# Altium schematic symbol library UAARG Autopilot.SchLib: 65 symbols
Pins are listed as number, name and electrical type; pins without a type are passive.

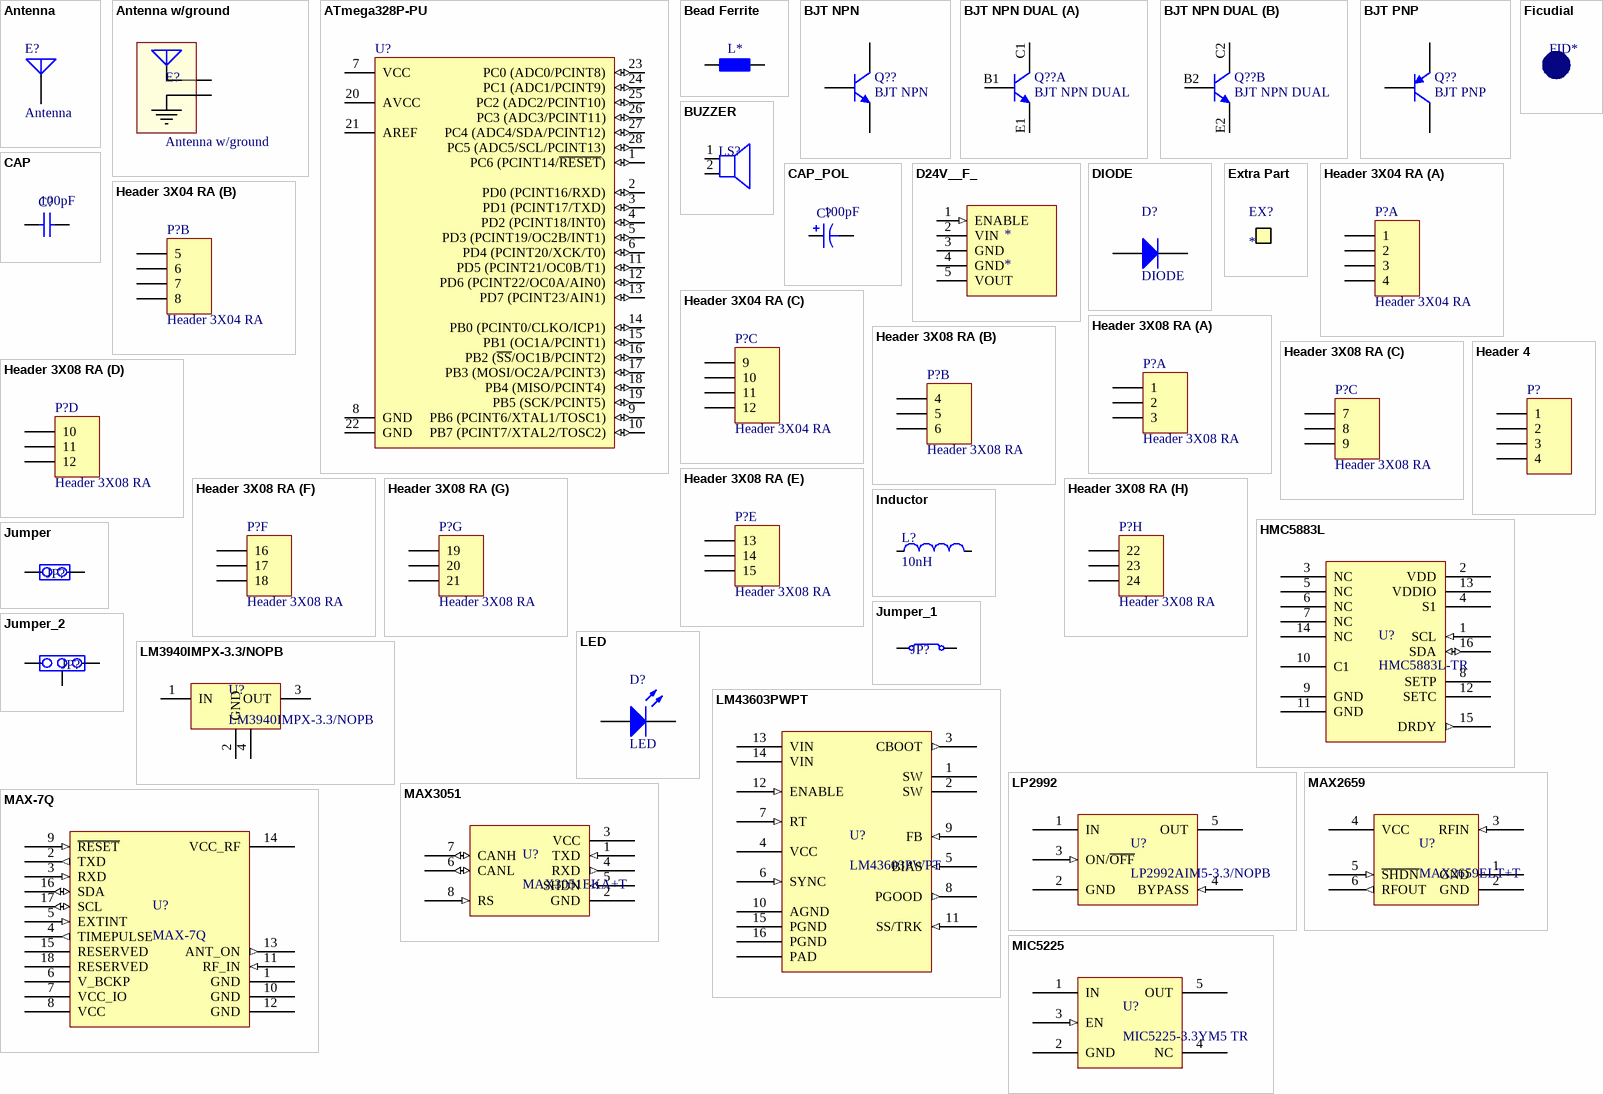
[diagram p0: symbols Antenna to MIC5225]

## Antenna
designator E?
Generic Antenna
pins: 1 A

## Antenna w/ground
designator E?
Generic Antenna with ground point
pins: 1 A, 2 GND

## ATmega328P-PU
designator U?
8-bit AVR Microcontroller, 32KB Flash, 1KB EEPROM, 2KB SRAM, 28-pin PDIP, Industrial Grade (-40°C to 85°C); Manufacturer: Atmel; Manufacturer Part Number: ATmega328P-PU; DatasheetVersion: revD, May-2011; PackageVersion: revB, Sep-2001; PackageReference: 28P3; PackageDescription: 28-lead (0.300"/7.62mm Wide) Plastic Dual Inline Package (PDIP); ComponentLink1Description: Manufacturer URL; ComponentLink1URL: http://www.atmel.com/; ComponentLink2Description: ATmega48A/48PA/88A/88PA/168A/168PA/328/328P Datasheet; ComponentLink2URL: http://www.atmel.com/dyn/resources/prod_documents/8271.pdf; ComponentLink3Description: ATmega48A/48PA/88A/88PA/168A/168PA/328/328P Summary; ComponentLink3URL: http://www.atmel.com/dyn/resources/prod_documents/8271S.pdf; Supplier 1: Mouser; Supplier Part Number 1: 556-ATMEGA328P-PU
footprint DIP28-P3 (28-Pin Plastic Dual In-Line Package (PDIP))
footprint DIP28-P3 FOR SOCKET (28-Pin Plastic Dual In-Line Package (PDIP), elevated for socket fitting)
pins: 1 PC6 (PCINT14/~{RESET}) (io), 2 PD0 (PCINT16/RXD) (io), 3 PD1 (PCINT17/TXD) (io), 4 PD2 (PCINT18/INT0) (io), 5 PD3 (PCINT19/OC2B/INT1) (io), 6 PD4 (PCINT20/XCK/T0) (io), 7 VCC (power), 8 GND (power), 9 PB6 (PCINT6/XTAL1/TOSC1) (io), 10 PB7 (PCINT7/XTAL2/TOSC2) (io), 11 PD5 (PCINT21/OC0B/T1) (io), 12 PD6 (PCINT22/OC0A/AIN0) (io), 13 PD7 (PCINT23/AIN1) (io), 14 PB0 (PCINT0/CLKO/ICP1) (io), 15 PB1 (OC1A/PCINT1) (io), 16 PB2 (~{SS}/OC1B/PCINT2) (io), 17 PB3 (MOSI/OC2A/PCINT3) (io), 18 PB4 (MISO/PCINT4) (io), 19 PB5 (SCK/PCINT5) (io), 20 AVCC (power), 21 AREF (power), 22 GND (power), 23 PC0 (ADC0/PCINT8) (io), 24 PC1 (ADC1/PCINT9) (io), 25 PC2 (ADC2/PCINT10) (io), 26 PC3 (ADC3/PCINT11) (io), 27 PC4 (ADC4/SDA/PCINT12) (io), 28 PC5 (ADC5/SCL/PCINT13) (io)

## Bead Ferrite
designator L*, comment MH2029-300Y  (value not drawn)
BEAD FERRITE 30 OHM 3A; Manufacturer: Bourns Inc.; Manufacturer Part Number: MH2029-300Y; Supplier 1: Digi-Key; Supplier Part Number 1: MH2029-300YCT-ND
footprint GEN_0805[2012M] (Chip SMD Generic Component, Body 2.0x1.2mm, IPC Low Density)
pins: 1, 2

## BJT NPN
designator Q??
NPN General Purpose Amplifier
simulation model 2N3904 (NPN)
signal-integrity model 2N3904
pins: 1 E, 2 B, 3 C

## BJT NPN DUAL
designator Q??
NPN General Purpose Amplifier
simulation model 2N3904 (NPN)
signal-integrity model 2N3904
part A pins: B1, C1, E1
part B pins: B2, C2, E2

## BJT PNP
designator Q??
PNP General Purpose Amplifier
simulation model 2N3906 (PNP)
signal-integrity model 2N3906
pins: 1 E, 2 B, 3 C

## BUZZER
designator LS?  (value not drawn)
Manufacturer: *; Manufacturer Part Number: *; Supplier 1: *; Suplier Part Number 1: *
pins: 1 POS, 2 NEG

## CAP
designator C?  value 100pF  (hidden comment: CAP)
Capacitor; Manufacturer: *; Manufacturer Part Number: *; Supplier 1: *; Supplier Part Number 1: *
footprint RAD-0.3 (Radial Cap, Thru-Hole; 2 Leads; 0.3 in Pin Spacing)
simulation model CAP (Capacitor)
signal-integrity model Cap
footprint CAP_0402[1005M] (Chip SMD Capacitor, Body 1.0x0.5mm, IPC Low Density)
footprint CAP_0603[1608M] (Chip SMD Capacitor, Body 1.6x0.8mm, IPC Low Density)
footprint CAP_0805[2012M] (Chip SMD Capacitor, Body 2.0x1.2mm, IPC Low Density)
footprint CAP_1206[3216M] (Chip SMD Capacitor, Body 3.2x1.6mm, IPC Low Density)
footprint CAP_1210[3225M] (Chip SMD Capacitor, Body 3.2x2.5mm, IPC Low Density)
pins: 1, 2

## CAP_POL
designator C?  value 100pF  (hidden comment: CAP_POL)
Polarized Capacitor; Manufacturer: *; Manufacturer Part Number: *; Supplier 1: *; Supplier Part Number 1: *
footprint POLAR0.8 (Polarized Capacitor; 2 Leads)
simulation model CAP (Capacitor)
signal-integrity model Cap Pol
pins: 1, 2
1 alternate drawing of the same symbol

## D24V__F_
designator *
Pololu Buck Converter D24V__F_ series
footprint D24V__F_ (Pololu's Buck Converter Module)
pins: 1 ENABLE (in), 2 VIN (power), 3 GND (power), 4 GND (power), 5 VOUT (power)

## DIODE
designator D?
Typical Diode; Manufacturer: *; Manufacturer Part Number: *; Supplier 1: *; Supplier Part Number 1: *
footprint SOD-123 (SOD-123 SMD)
pins: 1 A, 2 K

## Extra Part
designator EX?  (mechanical)
Extra Part (Mechanical); Manufacturer: *; Manufacturer Part Number: *; Supplier Part Number 1: *; Supplier: *

## Ficudial
designator FID*  (no BOM)
Fiducial

## Header 3X04 RA
designator P?
Header, 12-Pin
signal-integrity model Connector
footprint HDR_3x04_RA (Connector; Header; 12 Position, 3 rows, 4 pins per row, right angle)
part A pins: 1, 2, 3, 4
part B pins: 5, 6, 7, 8
part C pins: 9, 10, 11, 12

## Header 3X08 RA
designator P?
Header, 24-Pin
signal-integrity model Connector
footprint HDR_3x08_RA (Connector; Header; 24 Position, 3 rows, 8 pins per row, right angle)
part A pins: 1, 2, 3
part B pins: 4, 5, 6
part C pins: 7, 8, 9
part D pins: 10, 11, 12
part E pins: 13, 14, 15
part F pins: 16, 17, 18
part G pins: 19, 20, 21
part H pins: 22, 23, 24

## Header 4
designator P?
Header, 4-Pin; LatestRevisionDate: 17-Jul-2002; LatestRevisionNote: Re-released for DXP Platform.; Publisher: Altium Limited
footprint HDR1X4 (Connector; Header; 4 Position)
signal-integrity model Connector
pins: 1, 2, 3, 4

## HMC5883L
designator U?, comment HMC5883L-TR
HMC5883L 3-axis Magnetometer; Manufacturer: Honeywell Microelectronics & Precision Sensors; Manufacturer Part Number: HMC5883L-TR; Supplier 1: Digi-Key; Supplier Part Number 1: 342-1082-1-ND
footprint QFN16 (QFN, 16-Leads, Body 3x3mm, Pitch 0.5mm)
pins: 1 SCL (in), 2 VDD (power), 3 NC, 4 S1, 5 NC, 6 NC, 7 NC, 8 SETP, 9 GND (power), 10 C1, 11 GND (power), 12 SETC, 13 VDDIO (power), 14 NC, 15 DRDY (out), 16 SDA (io)

## Inductor
designator L?, comment 10nH
Chip Inductor; Value: 10nH
pins: 1, 2

## Jumper
designator JP?  (value not drawn)
Manufacturer: *; Manufacturer Part Number: *; Supplier 1: *; Supplier Part Number 1: *
pins: 1, 2

## Jumper_1
designator JP?, comment Jumper  (value not drawn)
Manufacturer: *; Manufacturer Part Number: *; Supplier 1: *; Supplier Part Number 1: *
pins: 1, 2

## Jumper_2
designator JP?, comment Jumper  (value not drawn)
Manufacturer: *; Manufacturer Part Number: *; Supplier 1: *; Supplier Part Number 1: *
footprint JUMPER_3POS (Multi Jumper 3 positions)
pins: 1, 2, 3

## LED
designator D?
Typical LED
footprint LED-0 (LED; 2 Leads)
simulation model LED0 (Diode)
pins: 1 A, 2 K

## LM3940IMPX-3.3/NOPB
designator U?
IC REG LDO 3.3V 1A SOT223; Manufacturer: Texas Instruments; Manufacturer Part Number: LM3940IMPX-3.3/NOPB; Package: SOT-223; Supplier 1: Digi-Key; Supplier Part Number 1: LM3940IMPX-3.3/NOPBCT-ND
footprint SOT223-3 (SOT223, 3-Leads, Body 6.5x3.5mm, Pitch 2.3mm)
pins: 1 IN (power), 2 GND (power), 3 OUT (power), 4 TAB (power)

## LM43603PWPT
designator U?
Simple Switcher 3.5V to 36V 3A Synchronous Step-Down Voltage Converter; Manufacturer: Texas Instruments; Manufacturer Part Number: LM43603PWPT; Supplier 1: Digi-Key; Supplier Part Number 1: 296-37755-1-ND
footprint HTSSOP-16 (Thin-Shrink Small Outline Package (TSSOP), 16-Leads, Body 4.4x5.0mm, Pitch 0.65mm, IPC Medium Density with exposed pad)
pins: 1 SW (power), 2 SW (power), 3 CBOOT (out), 4 VCC (power), 5 BIAS (in), 6 SYNC (in), 7 RT (in), 8 PGOOD (out), 9 FB (in), 10 AGND (power), 11 SS/TRK (in), 12 ENABLE (in), 13 VIN (power), 14 VIN (power), 15 PGND (power), 16 PGND (power), EP PAD (power)

## LP2992
designator U?, comment LP2992AIM5-3.3/NOPB
LP2992 LDO Voltage Regulator; Manufacturer: Texas Instruments; Voltage - Output: 3.3V; Current - Output: 250mA; Voltage - Dropout (Typical): 0.45V @ 250mA; Voltage - Input: Up to 16V; Supplier 1: Digi-Key; Supplier Part Number 1: LP2992AIM5-3.3/NOPBCT-ND; Manufacturer Part Number: LP2992AIM5-3.3/NOPB; ComponentLink1URL: http://www.ti.com/lit/ds/symlink/lp2992.pdf; ComponentLink1Description: Datasheet
footprint SOT23-5_N (SOT23, 5-Leads, Body 2.9x1.6mm, Pitch 0.95mm, Lead Span 2.8mm, IPC Medium Density)
pins: 1 IN (power), 2 GND (power), 3 ON/~{OFF} (in), 4 BYPASS (in), 5 OUT (power)

## MAX2659
designator U?, comment MAX2659ELT+T
MAX2659 Low Noise Amplifier; Manufacturer: Maxim Integrated; Gain: 20.5dB; Frequency: 1575.42MHz; Current - Supply: 4.1mA; Voltage - Supply: 1.6 V ~ 3.3 V; Supplier 1: Digi-Key; Supplier Part Number 1: MAX2659ELT+TCT-ND; Manufacturer Part Number: MAX2659ELT+T; Package / Case: 6-WFDFN; ComponentLink1URL: http://datasheets.maximintegrated.com/en/ds/MAX2659.pdf; ComponentLink1Description: http://datasheets.maximintegrated.com/en/ds/MAX2659.pdf
footprint uDFN-6 (uDFN 6-Leads, Body 1.5x1.0mm, Pitch 0.5mm)
pins: 1 GND (power), 2 GND (power), 3 RFIN (in), 4 VCC (power), 5 ~{SHDN} (in), 6 RFOUT (out)

## MAX3051
designator U?, comment MAX3051EKA+T
MAX3051 CAN Transceiver; Manufacturer: Maxim Integrated; Manufacturer Part Number: MAX3051EKA+T; Supplier 1: Digi-Key; Supplier Part Number 1: MAX3051EKA+TCT-ND
footprint SOT23-8_N (SOT23, 8-Leads, Body 2.9x1.6mm, Pitch 0.65mm, Lead Span 2.8mm, IPC Medium Density)
pins: 1 TXD (in), 2 GND (power), 3 VCC (power), 4 RXD (out), 5 SHDN (in), 6 CANL (io), 7 CANH (io), 8 RS (in)

## MAX-7Q
designator U?
u-blox MAX-7Q GNSS Module; Manufacturer: u-blox; Supplier 1: u-blox; Supplier Part Number 1: MAX-7Q; Manufacturer Part Number: MAX-7Q
footprint MAX6/7_GPS (u-blox MAX6/7 GNSS module)
pins: 1 GND (power), 2 TXD (out), 3 RXD (in), 4 TIMEPULSE (out), 5 EXTINT (in), 6 V_BCKP (power), 7 VCC_IO (power), 8 VCC (power), 9 ~{RESET} (in), 10 GND (power), 11 RF_IN (in), 12 GND (power), 13 ANT_ON (out), 14 VCC_RF (power), 15 RESERVED, 16 SDA (io), 17 SCL (io), 18 RESERVED

## MIC5225
designator U?, comment MIC5225-3.3YM5 TR
Ultra-Low Quiescent Current 150mA uCap Low Dropout Regulator; Manufacturer: Micrel Inc; Manufacturer Part Number: MIC5225-3.3YM5 TR; Supplier 1: Digi-Key; Supplier Part Number 1: 576-2980-1-ND
footprint SOT23-5_N (SOT23, 5-Leads, Body 2.9x1.6mm, Pitch 0.95mm, Lead Span 2.8mm, IPC Medium Density)
pins: 1 IN (power), 2 GND (power), 3 EN (in), 4 NC, 5 OUT (power)

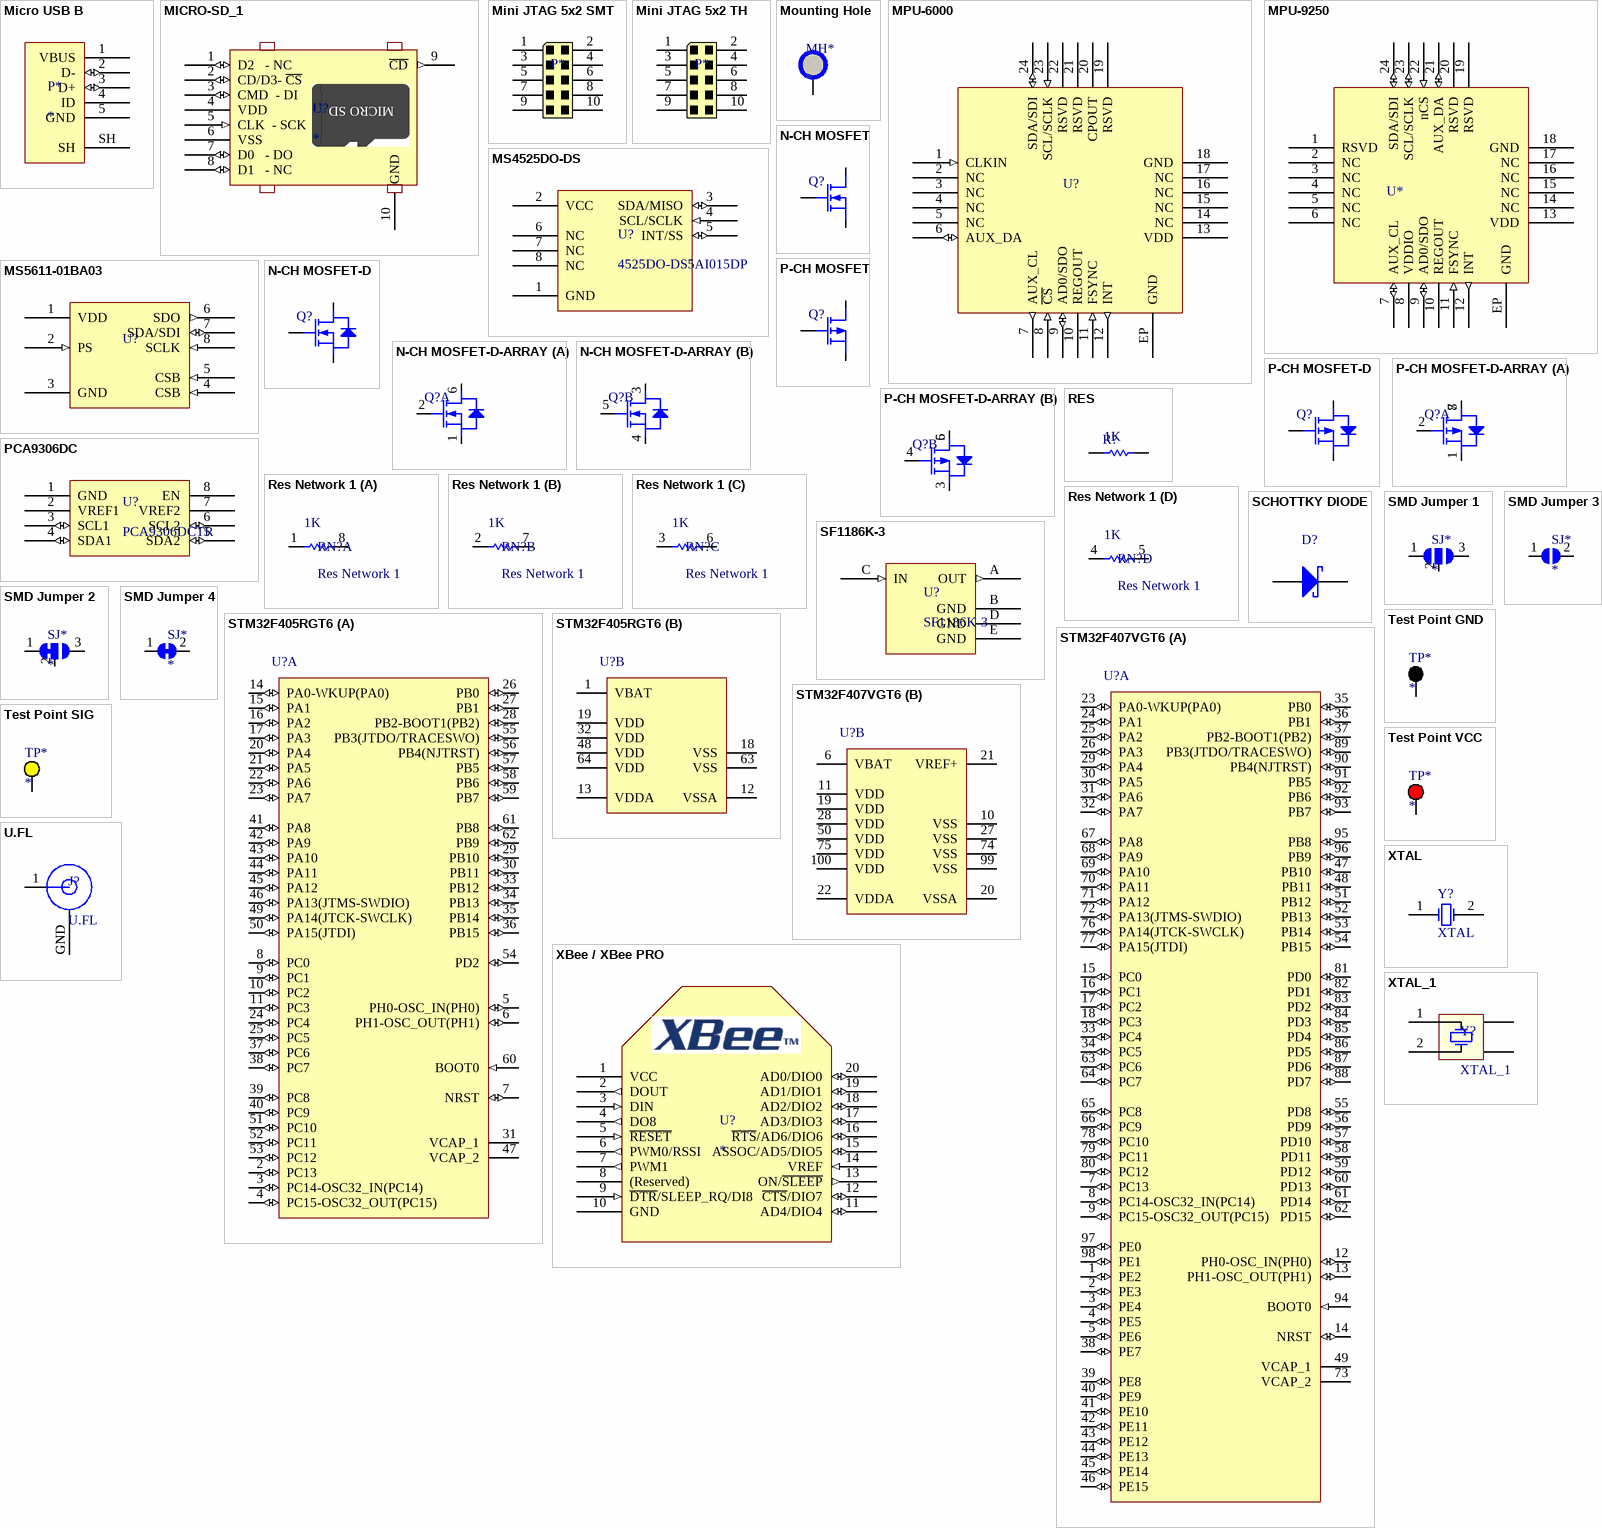
[diagram p1: symbols Micro USB B to XTAL_1]

## Micro USB B
designator P*
Micro USB Connector Type B; Manufacturer: Molex Inc; Manufacturer Part Number: 1050170001; Supplier 1: Digi-Key; Supplier Part Number 1: WM1399CT-ND
footprint Micro USB B (Micro USB B SMD R/A)
pins: 1 VBUS (power), 2 D- (io), 3 D+ (io), 4 ID, 5 GND (power), SH

## MICRO-SD_1
designator U?
GCT MEM2051-00-195-00-A; Manufacturer: Global Connector Technology; Manufacturer Part Number: MEM2051-00-195-00-A; Supplier 1: Newark; Supplier Part Number 1: 05W3557
footprint MICRO-SD_1 (Global Connector Technology MEM2051-00-195-00-A)
pins: 1 D2   - NC (io), 2 CD/D3- ~{CS} (io), 3 CMD  - DI (io), 4 VDD (power), 5 CLK  - SCK (in), 6 VSS (power), 7 D0   - DO (io), 8 D1   - NC (io), 9 ~{CD} (out), 10 GND (power)
text: MICRO SD

## Mini JTAG 5x2 SMT
designator P*  (value not drawn)
Mini JTAG connector header 10 pos 5x2 pitch 1.27mm SMT; Manufacturer: Harwin Inc; Manufacturer Part Number: M50-3600542; Supplier 1: Digi-Key; Supplier Part Number 1: 952-1389-ND
footprint Header 5x2 1.27mm SMD (Header 10pos, 5x2, pitch 1.27mm SMD)
pins: 1, 2, 3, 4, 5, 6, 7, 8, 9, 10

## Mini JTAG 5x2 TH
designator P*  (value not drawn)
Mini JTAG connector header 10 pos 5x2 pitch 1.27mm TH; Manufacturer: Harwin Inc; Manufacturer Part Number: M50-3600542; Supplier 1: Digi-Key; Supplier Part Number 1: 952-1383-ND
footprint Header 5x2 1.27mm TH (Header 10pos, 5x2, pitch 1.27mm TH)
pins: 1, 2, 3, 4, 5, 6, 7, 8, 9, 10

## Mounting Hole
designator MH*  (mechanical)
Mounting Hole
pins: 1

## MPU-6000
designator U?
Invense MPU-6000 6 Axis Motion Sensor; Manufacturer: InvenSense; Supplier 2: InvenSense; Supplier Part Number 2: MPU-6000; Supplier 1: Digi-Key; Supplier Part Number 1: 1428-1005-2-ND; Manufacturer Part Number: MPU-6000
footprint QFN24 (QFN, 24-Leads, Body 3x3mm, Pitch 0.4mm)
pins: 1 CLKIN (in), 2 NC, 3 NC, 4 NC, 5 NC, 6 AUX_DA (io), 7 AUX_CL (out), 8 ~{CS} (in), 9 AD0/SDO (io), 10 REGOUT (power), 11 FSYNC (in), 12 INT (out), 13 VDD (power), 14 NC, 15 NC, 16 NC, 17 NC, 18 GND (power), 19 RSVD, 20 CPOUT (power), 21 RSVD, 22 RSVD, 23 SCL/SCLK (in), 24 SDA/SDI (io), EP GND (power)

## MPU-9250
designator U*  (value not drawn)
Invense MPU-9250 9 Axis Motion Sensor; Manufacturer: InvenSense; Manufacturer Part Number: MPU-9250; Supplier 2: InvenSense; Supplier Part Number 2: MPU-9250; Supplier 1: Digi-Key; Supplier Part Number 1: 1428-1019-1-ND
footprint QFN24 (QFN, 24-Leads, Body 3x3mm, Pitch 0.4mm)
pins: 1 RSVD, 2 NC, 3 NC, 4 NC, 5 NC, 6 NC, 7 AUX_CL (io), 8 VDDIO (power), 9 AD0/SDO (io), 10 REGOUT (power), 11 FSYNC (in), 12 INT (out), 13 VDD (power), 14 NC, 15 NC, 16 NC, 17 NC, 18 GND (power), 19 RSVD, 20 RSVD, 21 AUX_DA (io), 22 nCS (in), 23 SCL/SCLK (io), 24 SDA/SDI (io), EP GND (power)

## MS4525DO-DS
designator U?, comment 4525DO-DS5AI015DP
SENSOR DIFF PRESS 15PSI 8DIP PCB; Manufacturer: TE Connectivity Measurement Specialties; Operating Pressure: 15 PSI (103.42 kPa); Manufacturer Part Number: 4525DO-DS5AI015DP; Supplier 1: Digi-Key; Supplier Part Number 1: 223-1113-ND
pins: 1 GND (power), 2 VCC (power), 3 SDA/MISO (io), 4 SCL/SCLK (in), 5 INT/SS (io), 6 NC, 7 NC, 8 NC

## MS5611-01BA03
designator U?  (value not drawn)
MS5611-01BA03 Barometer, Altimeter; Manufacturer: Measurement Specialties, Inc.; Manufacturer Part Number: MS5611-01BA03; Supplier 1: Component Distributors, Inc.; Supplier Part Number 1: MS5611-01BA03; Supplier 2: Newark; Supplier Part Number 2: 20X0212
footprint MS5611-01BA03 (MS5611-01BA03 Pressure Sensor)
pins: 1 VDD (power), 2 PS (in), 3 GND (power), 4 CSB (in), 5 CSB (in), 6 SDO (out), 7 SDA/SDI (io), 8 SCLK (in)

## N-CH MOSFET
designator Q?  (value not drawn)
N-CH MOSFET
pins: 1 D, 2 G, 3 S

## N-CH MOSFET-D
designator Q?  (value not drawn)
N-CH MOSFET W/ DIODE
pins: 1 D, 2 G, 3 S

## N-CH MOSFET-D-ARRAY
designator Q?  (value not drawn)
N-CH MOSFET W/ DIODE DUAL PACKAGE
part A pins: 1 S1, 2 G1, 6 D1
part B pins: 3 D1, 4 S2, 5 G2

## P-CH MOSFET
designator Q?  (value not drawn)
P-CH MOSFET
pins: 1 D, 2 G, 3 S

## P-CH MOSFET-D
designator Q?  (value not drawn)
P-CH MOSFET W/ DIODE
pins: 1 D, 2 G, 3 S

## P-CH MOSFET-D-ARRAY
designator Q?  (value not drawn)
P-CH MOSFET W/ DIODE DUAL PACKAGE
part A pins: 1 S1, 2 G1, 7 D1, 8 D1
part B pins: 3 S2, 4 G2, 5 D2, 6 D2

## PCA9306DC
designator U?, comment PCA9306DCTR
IC VOLT-LEVEL TRANSLATOR SM8; Manufacturer: Texas Instruments; Manufacturer Part Number: PCA9306DCTR; Supplier 1: Digi-Key; Supplier Part Number 1: 296-18509-1-ND
pins: 1 GND (power), 2 VREF1 (power), 3 SCL1 (io), 4 SDA1 (io), 5 SDA2 (io), 6 SCL2 (io), 7 VREF2 (power), 8 EN (power)

## RES
designator R?  value 1K  (hidden comment: RES)
Resistor; Manufacturer: *; Manufacturer Part Number: *; Supplier 1: *; Supplier Part Number 1: *
footprint AXIAL-0.5 (Axial Device, Thru-Hole; 2 Leads; 0.5 in Pin Spacing)
simulation model RES (Semiconductor Resistor)
signal-integrity model Res Semi
footprint RES_0402[1005M] (Chip SMD Resistor Body 1.0x0.5mm, IPC Low Density)
footprint RES_0603[1608M] (Chip SMD Resistor Body 1.6x0.8mm, IPC Low Density)
footprint RES_0805[2012M] (Chip SMD Resistor Body 2.0x1.2mm, IPC Low Density)
footprint RES_1206[3216M] (Chip SMD Resistor Body 3.2x1.6mm, IPC Low Density)
footprint RES_1210[3225M] (Chip SMD Resistor Body 3.2x2.5mm, IPC Low Density)
footprint RES_2512[6432M] (Chip SMD Capacitor, Body 6.4x3.2mm, IPC Low Density)
pins: 1, 2

## Res Network 1
designator RN?  value 1K
Isolated Resistor Network; Manufacturer: *; Manufacturer Part Number: *; Supplier 1: *; Supplier Part Number 1: *
part A pins: 1, 8
part B pins: 2, 7
part C pins: 3, 6
part D pins: 4, 5

## SCHOTTKY DIODE
designator D?  (value not drawn)
Typical SchottkyDiode; Manufacturer: *; Manufacturer Part Number: *; Supplier 1: *; Supplier Part Number 1: *
footprint SOD-123 (SOD-123 SMD)
pins: 1 A, 2 K

## SF1186K-3
designator U?
GPS SAW Filter; Manufacturer: Murata Electronics North America; Bandwidth: 40MHz; Insertion Loss: 0.9dB; Filter Type: Band Pass; Frequency: 1575.42MHz Center; Supplier 1: Digi-Key; Supplier Part Number 1: 583-1182-1-ND; Package / Case: 5-SMD, No Lead; Applications: GPS; Manufacturer Part Number: SF1186K-3; Size / Dimension: 0.057" L x 0.045" W (1.45mm x 1.15mm); ComponentLink1URL: http://www.rfmchina.com/prouplod/prodt/sf1186k-3.pdf; ComponentLink1Description: http://www.rfmchina.com/prouplod/prodt/sf1186k-3.pdf
footprint 5-SMD (5-Terminal Surface-Mount Case  1.45 X 1.15- mm Nominal Footprint)
pins: A OUT (out), B GND (power), C IN (in), D GND (power), E GND (power)

## SMD Jumper 1
designator SJ*  (no BOM)
SMD Jumper 3 positions. Open
pins: 1, 2, 3

## SMD Jumper 2
designator SJ*  (no BOM)
SMD Jumper 3 positions. Closed
pins: 1, 2, 3

## SMD Jumper 3
designator SJ*  (no BOM)
SMD Jumper 2 positions. Open
pins: 1, 2

## SMD Jumper 4
designator SJ*  (no BOM)
SMD Jumper 2 positions. Closed
pins: 1, 2

## STM32F405RGT6
designator U?
ARM Cortex-M4 32-bit MCU+FPU, 210 DMIPS, 1024 kB Flash, 192 kB Internal RAM, 51 I/Os, 64-pin LQFP, -40 to 85 degC, Tray; Manufacturer: STMicroelectronics; PartNumber: STM32F405RGT6; D/A Converter: 2x12-bit; FLASH Size (Prog) (kB): 1024; I/Os (High Current): 51; Internal RAM Size (kB): 192; Operating Frequency(F) (Processor speed) (MHz): 168; Supply Voltage(Vcc) max (V): 3.6; Supply Voltage(Vcc) min (V): 1.8; DatasheetVersion: Rev. 4; PackageVersion: Rev. 4, 06/2013; PackageReference: LQFP64; PackageDescription: 64-Pin Low Profile Quad Flat Package, 10 x 10 mm Body, 0.5 mm Pitch; Supplier 1: Digi-Key; Supplier Part Number 1: 497-11767-ND; Supplier 2: Farnell; Supplier Part Number 2: 2064363; Supplier 3: Newark; Supplier Part Number 3: 73T2329; Supplier 4: Mouser; Supplier Part Number 4: 511-STM32F405RGT6; Core: ARM Cortex-M4; Packing: Tray; Mounting Technology: Surface Mount; ComponentLink1Description: Manufacturer URL; ComponentLink1URL: http://www.st.com/web/en/home.html; ComponentLink2Description: Datasheet; ComponentLink2URL: http://www.st.com/st-web-ui/static/active/en/resource/technical/document/datasheet/DM00037051.pdf; ComponentLink3Description: Package Specification; ComponentLink3URL: http://www.st.com/st-web-ui/static/active/en/resource/technical/document/datasheet/DM00037051.pdf
footprint STM-LQFP64_N (Thin QFP, 64-Leads, Body 10x10mm, Pitch 0.5mm, IPC Medium Density)
footprint STM-LQFP64_L (Thin QFP, 64-Leads, Body 10x10mm, Pitch 0.5mm, IPC High Density)
footprint STM-LQFP64_M (Thin QFP, 64-Leads, Body 10x10mm, Pitch 0.5mm, IPC Low Density)
footprint STM-LQFP64_V (Thin QFP, 64-Leads, Body 10x10mm, Pitch 0.5mm, ST Recommended)
part A pins: 2 PC13 (io) "PC13/EVENTOUT/RTC_OUT,RTC_TAMP1,RTC_TS", 3 PC14-OSC32_IN(PC14) (io) "PC14-OSC32_IN(PC14)/EVENTOUT/OSC32_IN", 4 PC15-OSC32_OUT(PC15) (io) "PC15-OSC32_OUT(PC15)/EVENTOUT/OSC32_OUT", 5 PH0-OSC_IN(PH0) (io) "PH0-OSC_IN(PH0)/EVENTOUT/OSC_IN", 6 PH1-OSC_OUT(PH1) (io) "PH1-OSC_OUT(PH1)/EVENTOUT/OSC_OUT", 7 NRST (io), 8 PC0 (io) "PC0/OTG_HS_ULPI_STP/EVENTOUT/ADC123_IN10", 9 PC1 (io) "PC1/ETH_MDC/EVENTOUT/ADC123_IN11", 10 PC2 (io) "PC2/SPI2_MISO/OTG_HS_ULPI_DIR/ETH_MII_TXD2/I2S2ext_SD/EVENTOUT/ADC123_IN12", 11 PC3 (io) "PC3/SPI2_MOSI/I2S2_SD/OTG_HS_ULPI_NXT/ETH_MII_TX_CLK/EVENTOUT/ADC123_IN13", 14 PA0-WKUP(PA0) (io) "PA0-WKUP(PA0)/USART2_CTS/UART4_TX/ETH_MII_CRS/TIM2_CH1_ETR/TIM5_CH1/TIM8_ETR/EVENTOUT/ADC123_IN0/WKUP", 15 PA1 (io) "PA1/USART2_RTS/UART4_RX/ETH_RMII_REF_CLK/ETH_MII_RX_CLK/TIM5_CH2/TIM2_CH2/EVENTOUT/ADC123_IN1", 16 PA2 (io) "PA2/USART2_TX/TIM5_CH3/TIM9_CH1/TIM2_CH3/ETH_MDIO/EVENTOUT/ADC123_IN2", 17 PA3 (io) "PA3/USART2_RX/TIM5_CH4/TIM9_CH2/TIM2_CH4/OTG_HS_ULPI_D0/ETH_MII_COL/EVENTOUT/ADC123_IN3", 20 PA4 (io) "PA4/SPI1_NSS/SPI3_NSS/USART2_CK/DCMI_HSYNC/OTG_HS_SOF/I2S3_WS/EVENTOUT/ADC12_IN4/DAC_OUT1", 21 PA5 (io) "PA5/SPI1_SCK/OTG_HS_ULPI_CK/TIM2_CH1_ETR/TIM8_CH1N/EVENTOUT/ADC12_IN5/DAC_OUT2", 22 PA6 (io) "PA6/SPI1_MISO/TIM8_BKIN/TIM13_CH1/DCMI_PIXCLK/TIM3_CH1/TIM1_BKIN/EVENTOUT/ADC12_IN6", 23 PA7 (io) "PA7/SPI1_MOSI/TIM8_CH1N/TIM14_CH1/TIM3_CH2/ETH_MII_RX_DV/TIM1_CH1N/ETH_RMII_CRS_DV/EVENTOUT/ADC12_IN7", 24 PC4 (io) "PC4/ETH_RMII_RX_D0/ETH_MII_RX_D0/EVENTOUT/ADC12_IN14", 25 PC5 (io) "PC5/ETH_RMII_RX_D1/ETH_MII_RX_D1/EVENTOUT/ADC12_IN15", 26 PB0 (io) "PB0/TIM3_CH3/TIM8_CH2N/OTG_HS_ULPI_D1/ETH_MII_RXD2/TIM1_CH2N/EVENTOUT/ADC12_IN8", 27 PB1 (io) "PB1/TIM3_CH4/TIM8_CH3N/OTG_HS_ULPI_D2/ETH_MII_RXD3/TIM1_CH3N/EVENTOUT/ADC12_IN9", 28 PB2-BOOT1(PB2) (io) "PB2-BOOT1(PB2)/EVENTOUT", 29 PB10 (io) "PB10/SPI2_SCK/I2S2_CK/I2C2_SCL/USART3_TX/OTG_HS_ULPI_D3/ETH_MII_RX_ER/TIM2_CH3/EVENTOUT", 30 PB11 (io) "PB11/I2C2_SDA/USART3_RX/OTG_HS_ULPI_D4/ETH_RMII_TX_EN/ETH_MII_TX_EN/TIM2_CH4/EVENTOUT", 31 VCAP_1 (power), 33 PB12 (io) "PB12/SPI2_NSS/I2S2_WS/I2C2_SMBA/USART3_CK/TIM1_BKIN/CAN2_RX/OTG_HS_ULPI_D5/ETH_RMII_TXD0/ETH_MII_TXD0/OTG_HS_ID/EVENTOUT", 34 PB13 (io) "PB13/SPI2_SCK/I2S2_CK/USART3_CTS/TIM1_CH1N/CAN2_TX/OTG_HS_ULPI_D6/ETH_RMII_TXD1/ETH_MII_TXD1/EVENTOUT/OTG_HS_VBUS", 35 PB14 (io) "PB14/SPI2_MISO/TIM1_CH2N/TIM12_CH1/OTG_HS_DM/USART3_RTS/TIM8_CH2N/I2S2ext_SD/EVENTOUT", 36 PB15 (io) "PB15/SPI2_MOSI/I2S2_SD/TIM1_CH3N/TIM8_CH3N/TIM12_CH2/OTG_HS_DP/EVENTOUT/RTC_REFIN", 37 PC6 (io) "PC6/I2S2_MCK/TIM8_CH1/SDIO_D6/USART6_TX/DCMI_D0/TIM3_CH1/EVENTOUT", 38 PC7 (io) "PC7/I2S3_MCK/TIM8_CH2/SDIO_D7/USART6_RX/DCMI_D1/TIM3_CH2/EVENTOUT", 39 PC8 (io) "PC8/TIM8_CH3/SDIO_D0/TIM3_CH3/USART6_CK/DCMI_D2/EVENTOUT", 40 PC9 (io) "PC9/I2S_CKIN/MCO2/TIM8_CH4/SDIO_D1/I2C3_SDA/DCMI_D3/TIM3_CH4/EVENTOUT", 41 PA8 (io) "PA8/MCO1/USART1_CK/TIM1_CH1/I2C3_SCL/OTG_FS_SOF/EVENTOUT", 42 PA9 (io) "PA9/USART1_TX/TIM1_CH2/I2C3_SMBA/DCMI_D0/EVENTOUT/OTG_FS_VBUS", 43 PA10 (io) "PA10/USART1_RX/TIM1_CH3/OTG_FS_ID/DCMI_D1/EVENTOUT", 44 PA11 (io) "PA11/USART1_CTS/CAN1_RX/TIM1_CH4/OTG_FS_DM/EVENTOUT", 45 PA12 (io) "PA12/USART1_RTS/CAN1_TX/TIM1_ETR/OTG_FS_DP/EVENTOUT", 46 PA13(JTMS-SWDIO) (io) "PA13(JTMS-SWDIO)/JTMS-SWDIO/EVENTOUT", 47 VCAP_2 (power), 49 PA14(JTCK-SWCLK) (io) "PA14(JTCK-SWCLK)/JTCK-SWCLK/EVENTOUT", 50 PA15(JTDI) (io) "PA15(JTDI)/JTDI/SPI3_NSS/I2S3_WS/TIM2_CH1_ETR/SPI1_NSS/EVENTOUT", 51 PC10 (io) "PC10/SPI3_SCK/I2S3_CK/UART4_TX/SDIO_D2/DCMI_D8/USART3_TX/EVENTOUT", 52 PC11 (io) "PC11/UART4_RX/SPI3_MISO/SDIO_D3/DCMI_D4/USART3_RX/I2S3ext_SD/EVENTOUT", 53 PC12 (io) "PC12/UART5_TX/SDIO_CK/DCMI_D9/SPI3_MOSI/I2S3_SD/USART3_CK/EVENTOUT", 54 PD2 (io) "PD2/TIM3_ETR/UART5_RX/SDIO_CMD/DCMI_D11/EVENTOUT", 55 PB3(JTDO/TRACESWO) (io) "PB3(JTDO/TRACESWO)/JTDO/TRACESWO/SPI3_SCK/I2S3_CK/TIM2_CH2/SPI1_SCK/EVENTOUT", 56 PB4(NJTRST) (io) "PB4(NJTRST)/NJTRST/SPI3_MISO/TIM3_CH1/SPI1_MISO/I2S3ext_SD/EVENTOUT", 57 PB5 (io) "PB5/I2C1_SMBA/CAN2_RX/OTG_HS_ULPI_D7/ETH_PPS_OUT/TIM3_CH2/SPI1_MOSI/SPI3_MOSI/DCMI_D10/I2S3_SD/EVENTOUT", 58 PB6 (io) "PB6/I2C1_SCL/TIM4_CH1/CAN2_TX/DCMI_D5/USART1_TX/EVENTOUT", 59 PB7 (io) "PB7/I2C1_SDA/FSMC_NL/DCMI_VSYNC/USART1_RX/TIM4_CH2/EVENTOUT", 60 BOOT0 (in) "BOOT0/VPP", 61 PB8 (io) "PB8/TIM4_CH3/SDIO_D4/TIM10_CH1/DCMI_D6/ETH_MII_TXD3/I2C1_SCL/CAN1_RX/EVENTOUT", 62 PB9 (io) "PB9/SPI2_NSS/I2S2_WS/TIM4_CH4/TIM11_CH1/SDIO_D5/DCMI_D7/I2C1_SDA/CAN1_TX/EVENTOUT"
part B pins: 1 VBAT (power), 12 VSSA (power), 13 VDDA (power), 18 VSS (power), 19 VDD (power), 32 VDD (power), 48 VDD (power), 63 VSS (power), 64 VDD (power)

## STM32F407VGT6
designator U?
ARM Cortex-M4 32-bit MCU+FPU, 210 DMIPS, 1024 kB Flash, 192 kB Internal RAM, 82 I/Os, 100-pin LQFP, -40 to 85 degC, Tray; Manufacturer: STMicroelectronics; PartNumber: STM32F407VGT6; D/A Converter: 2x12-bit; FLASH Size (Prog) (kB): 1024; I/Os (High Current): 82; Internal RAM Size (kB): 192; Operating Frequency(F) (Processor speed) (MHz): 168; Supply Voltage(Vcc) max (V): 3.6; Supply Voltage(Vcc) min (V): 1.8; DatasheetVersion: Rev. 4; PackageVersion: Rev. 1, 06/2013; PackageReference: LQFP100; PackageDescription: 100-Pin Low Profile Quad Flat Package, 14 x 14 mm Body, 0.5 mm Pitch; Supplier 1: Digi-Key; Supplier Part Number 1: 497-11605-ND; Supplier 2: Farnell; Supplier Part Number 2: 2064368; Supplier 3: Newark; Supplier Part Number 3: 73T2333; Supplier 4: Mouser; Supplier Part Number 4: 511-STM32F407VGT6; Core: ARM Cortex-M4; Packing: Tray; Mounting Technology: Surface Mount; ComponentLink1Description: Manufacturer URL; ComponentLink1URL: http://www.st.com/web/en/home.html; ComponentLink2Description: Datasheet; ComponentLink2URL: http://www.st.com/st-web-ui/static/active/en/resource/technical/document/datasheet/DM00037051.pdf; ComponentLink3Description: Package Specification; ComponentLink3URL: http://www.st.com/st-web-ui/static/active/en/resource/technical/document/data_brief/DM00071938.pdf
footprint STM-LQFP100_N (Thin QFP, 100-Leads, Body 14x14mm, Pitch 0.5mm, IPC Medium Density)
footprint STM-LQFP100_L (Thin QFP, 100-Leads, Body 14x14mm, Pitch 0.5mm, IPC High Density)
footprint STM-LQFP100_M (Thin QFP, 100-Leads, Body 14x14mm, Pitch 0.5mm, IPC Low Density)
footprint STM-LQFP100_V (Thin QFP, 100-Leads, Body 14x14mm, Pitch 0.5mm, ST Recommended)
part A pins: 1 PE2 (io) "PE2/TRACECLK/FSMC_A23/ETH_MII_TXD3/EVENTOUT", 2 PE3 (io) "PE3/TRACED0/FSMC_A19/EVENTOUT", 3 PE4 (io) "PE4/TRACED1/FSMC_A20/DCMI_D4/EVENTOUT", 4 PE5 (io) "PE5/TRACED2/FSMC_A21/TIM9_CH1/DCMI_D6/EVENTOUT", 5 PE6 (io) "PE6/TRACED3/FSMC_A22/TIM9_CH2/DCMI_D7/EVENTOUT", 7 PC13 (io) "PC13/EVENTOUT/RTC_OUT,RTC_TAMP1,RTC_TS", 8 PC14-OSC32_IN(PC14) (io) "PC14-OSC32_IN(PC14)/EVENTOUT/OSC32_IN", 9 PC15-OSC32_OUT(PC15) (io) "PC15-OSC32_OUT(PC15)/EVENTOUT/OSC32_OUT", 12 PH0-OSC_IN(PH0) (io) "PH0-OSC_IN(PH0)/EVENTOUT/OSC_IN", 13 PH1-OSC_OUT(PH1) (io) "PH1-OSC_OUT(PH1)/EVENTOUT/OSC_OUT", 14 NRST (io), 15 PC0 (io) "PC0/OTG_HS_ULPI_STP/EVENTOUT/ADC123_IN10", 16 PC1 (io) "PC1/ETH_MDC/EVENTOUT/ADC123_IN11", 17 PC2 (io) "PC2/SPI2_MISO/OTG_HS_ULPI_DIR/ETH_MII_TXD2/I2S2ext_SD/EVENTOUT/ADC123_IN12", 18 PC3 (io) "PC3/SPI2_MOSI/I2S2_SD/OTG_HS_ULPI_NXT/ETH_MII_TX_CLK/EVENTOUT/ADC123_IN13", 23 PA0-WKUP(PA0) (io) "PA0-WKUP(PA0)/USART2_CTS/UART4_TX/ETH_MII_CRS/TIM2_CH1_ETR/TIM5_CH1/TIM8_ETR/EVENTOUT/ADC123_IN0/WKUP", 24 PA1 (io) "PA1/USART2_RTS/UART4_RX/ETH_RMII_REF_CLK/ETH_MII_RX_CLK/TIM5_CH2/TIM2_CH2/EVENTOUT/ADC123_IN1", 25 PA2 (io) "PA2/USART2_TX/TIM5_CH3/TIM9_CH1/TIM2_CH3/ETH_MDIO/EVENTOUT/ADC123_IN2", 26 PA3 (io) "PA3/USART2_RX/TIM5_CH4/TIM9_CH2/TIM2_CH4/OTG_HS_ULPI_D0/ETH_MII_COL/EVENTOUT/ADC123_IN3", 29 PA4 (io) "PA4/SPI1_NSS/SPI3_NSS/USART2_CK/DCMI_HSYNC/OTG_HS_SOF/I2S3_WS/EVENTOUT/ADC12_IN4/DAC_OUT1", 30 PA5 (io) "PA5/SPI1_SCK/OTG_HS_ULPI_CK/TIM2_CH1_ETR/TIM8_CH1N/EVENTOUT/ADC12_IN5/DAC_OUT2", 31 PA6 (io) "PA6/SPI1_MISO/TIM8_BKIN/TIM13_CH1/DCMI_PIXCLK/TIM3_CH1/TIM1_BKIN/EVENTOUT/ADC12_IN6", 32 PA7 (io) "PA7/SPI1_MOSI/TIM8_CH1N/TIM14_CH1/TIM3_CH2/ETH_MII_RX_DV/TIM1_CH1N/ETH_RMII_CRS_DV/EVENTOUT/ADC12_IN7", 33 PC4 (io) "PC4/ETH_RMII_RX_D0/ETH_MII_RX_D0/EVENTOUT/ADC12_IN14", 34 PC5 (io) "PC5/ETH_RMII_RX_D1/ETH_MII_RX_D1/EVENTOUT/ADC12_IN15", 35 PB0 (io) "PB0/TIM3_CH3/TIM8_CH2N/OTG_HS_ULPI_D1/ETH_MII_RXD2/TIM1_CH2N/EVENTOUT/ADC12_IN8", 36 PB1 (io) "PB1/TIM3_CH4/TIM8_CH3N/OTG_HS_ULPI_D2/ETH_MII_RXD3/TIM1_CH3N/EVENTOUT/ADC12_IN9", 37 PB2-BOOT1(PB2) (io) "PB2-BOOT1(PB2)/EVENTOUT", 38 PE7 (io) "PE7/FSMC_D4/TIM1_ETR/EVENTOUT", 39 PE8 (io) "PE8/FSMC_D5/TIM1_CH1N/EVENTOUT", 40 PE9 (io) "PE9/FSMC_D6/TIM1_CH1/EVENTOUT", 41 PE10 (io) "PE10/FSMC_D7/TIM1_CH2N/EVENTOUT", 42 PE11 (io) "PE11/FSMC_D8/TIM1_CH2/EVENTOUT", 43 PE12 (io) "PE12/FSMC_D9/TIM1_CH3N/EVENTOUT", 44 PE13 (io) "PE13/FSMC_D10/TIM1_CH3/EVENTOUT", 45 PE14 (io) "PE14/FSMC_D11/TIM1_CH4/EVENTOUT", 46 PE15 (io) "PE15/FSMC_D12/TIM1_BKIN/EVENTOUT", 47 PB10 (io) "PB10/SPI2_SCK/I2S2_CK/I2C2_SCL/USART3_TX/OTG_HS_ULPI_D3/ETH_MII_RX_ER/TIM2_CH3/EVENTOUT", 48 PB11 (io) "PB11/I2C2_SDA/USART3_RX/OTG_HS_ULPI_D4/ETH_RMII_TX_EN/ETH_MII_TX_EN/TIM2_CH4/EVENTOUT", 49 VCAP_1 (power), 51 PB12 (io) "PB12/SPI2_NSS/I2S2_WS/I2C2_SMBA/USART3_CK/TIM1_BKIN/CAN2_RX/OTG_HS_ULPI_D5/ETH_RMII_TXD0/ETH_MII_TXD0/OTG_HS_ID/EVENTOUT", 52 PB13 (io) "PB13/SPI2_SCK/I2S2_CK/USART3_CTS/TIM1_CH1N/CAN2_TX/OTG_HS_ULPI_D6/ETH_RMII_TXD1/ETH_MII_TXD1/EVENTOUT/OTG_HS_VBUS", 53 PB14 (io) "PB14/SPI2_MISO/TIM1_CH2N/TIM12_CH1/OTG_HS_DM/USART3_RTS/TIM8_CH2N/I2S2ext_SD/EVENTOUT", 54 PB15 (io) "PB15/SPI2_MOSI/I2S2_SD/TIM1_CH3N/TIM8_CH3N/TIM12_CH2/OTG_HS_DP/EVENTOUT/RTC_REFIN", 55 PD8 (io) "PD8/FSMC_D13/USART3_TX/EVENTOUT", 56 PD9 (io) "PD9/FSMC_D14/USART3_RX/EVENTOUT", 57 PD10 (io) "PD10/FSMC_D15/USART3_CK/EVENTOUT", 58 PD11 (io) "PD11/FSMC_CLE/FSMC_A16/USART3_CTS/EVENTOUT", 59 PD12 (io) "PD12/FSMC_ALE/FSMC_A17/TIM4_CH1/USART3_RTS/EVENTOUT", 60 PD13 (io) "PD13/FSMC_A18/TIM4_CH2/EVENTOUT", 61 PD14 (io) "PD14/FSMC_D0/TIM4_CH3/EVENTOUT", 62 PD15 (io) "PD15/FSMC_D1/TIM4_CH4/EVENTOUT", 63 PC6 (io) "PC6/I2S2_MCK/TIM8_CH1/SDIO_D6/USART6_TX/DCMI_D0/TIM3_CH1/EVENTOUT", 64 PC7 (io) "PC7/I2S3_MCK/TIM8_CH2/SDIO_D7/USART6_RX/DCMI_D1/TIM3_CH2/EVENTOUT", 65 PC8 (io) "PC8/TIM8_CH3/SDIO_D0/TIM3_CH3/USART6_CK/DCMI_D2/EVENTOUT", 66 PC9 (io) "PC9/I2S_CKIN/MCO2/TIM8_CH4/SDIO_D1/I2C3_SDA/DCMI_D3/TIM3_CH4/EVENTOUT", 67 PA8 (io) "PA8/MCO1/USART1_CK/TIM1_CH1/I2C3_SCL/OTG_FS_SOF/EVENTOUT", 68 PA9 (io) "PA9/USART1_TX/TIM1_CH2/I2C3_SMBA/DCMI_D0/EVENTOUT/OTG_FS_VBUS", 69 PA10 (io) "PA10/USART1_RX/TIM1_CH3/OTG_FS_ID/DCMI_D1/EVENTOUT", 70 PA11 (io) "PA11/USART1_CTS/CAN1_RX/TIM1_CH4/OTG_FS_DM/EVENTOUT", 71 PA12 (io) "PA12/USART1_RTS/CAN1_TX/TIM1_ETR/OTG_FS_DP/EVENTOUT", 72 PA13(JTMS-SWDIO) (io) "PA13(JTMS-SWDIO)/JTMS-SWDIO/EVENTOUT", 73 VCAP_2 (power), 76 PA14(JTCK-SWCLK) (io) "PA14(JTCK-SWCLK)/JTCK-SWCLK/EVENTOUT", 77 PA15(JTDI) (io) "PA15(JTDI)/JTDI/SPI3_NSS/I2S3_WS/TIM2_CH1_ETR/SPI1_NSS/EVENTOUT", 78 PC10 (io) "PC10/SPI3_SCK/I2S3_CK/UART4_TX/SDIO_D2/DCMI_D8/USART3_TX/EVENTOUT", 79 PC11 (io) "PC11/UART4_RX/SPI3_MISO/SDIO_D3/DCMI_D4/USART3_RX/I2S3ext_SD/EVENTOUT", 80 PC12 (io) "PC12/UART5_TX/SDIO_CK/DCMI_D9/SPI3_MOSI/I2S3_SD/USART3_CK/EVENTOUT", 81 PD0 (io) "PD0/FSMC_D2/CAN1_RX/EVENTOUT", 82 PD1 (io) "PD1/FSMC_D3/CAN1_TX/EVENTOUT", 83 PD2 (io) "PD2/TIM3_ETR/UART5_RX/SDIO_CMD/DCMI_D11/EVENTOUT", 84 PD3 (io) "PD3/FSMC_CLK/USART2_CTS/EVENTOUT", 85 PD4 (io) "PD4/FSMC_NOE/USART2_RTS/EVENTOUT", 86 PD5 (io) "PD5/FSMC_NWE/USART2_TX/EVENTOUT", 87 PD6 (io) "PD6/FSMC_NWAIT/USART2_RX/EVENTOUT", 88 PD7 (io) "PD7/USART2_CK/FSMC_NE1/FSMC_NCE2/EVENTOUT", 89 PB3(JTDO/TRACESWO) (io) "PB3(JTDO/TRACESWO)/JTDO/TRACESWO/SPI3_SCK/I2S3_CK/TIM2_CH2/SPI1_SCK/EVENTOUT", 90 PB4(NJTRST) (io) "PB4(NJTRST)/NJTRST/SPI3_MISO/TIM3_CH1/SPI1_MISO/I2S3ext_SD/EVENTOUT", 91 PB5 (io) "PB5/I2C1_SMBA/CAN2_RX/OTG_HS_ULPI_D7/ETH_PPS_OUT/TIM3_CH2/SPI1_MOSI/SPI3_MOSI/DCMI_D10/I2S3_SD/EVENTOUT", 92 PB6 (io) "PB6/I2C1_SCL/TIM4_CH1/CAN2_TX/DCMI_D5/USART1_TX/EVENTOUT", 93 PB7 (io) "PB7/I2C1_SDA/FSMC_NL/DCMI_VSYNC/USART1_RX/TIM4_CH2/EVENTOUT", 94 BOOT0 (in) "BOOT0/VPP", 95 PB8 (io) "PB8/TIM4_CH3/SDIO_D4/TIM10_CH1/DCMI_D6/ETH_MII_TXD3/I2C1_SCL/CAN1_RX/EVENTOUT", 96 PB9 (io) "PB9/SPI2_NSS/I2S2_WS/TIM4_CH4/TIM11_CH1/SDIO_D5/DCMI_D7/I2C1_SDA/CAN1_TX/EVENTOUT", 97 PE0 (io) "PE0/TIM4_ETR/FSMC_NBL0/DCMI_D2/EVENTOUT", 98 PE1 (io) "PE1/FSMC_NBL1/DCMI_D3/EVENTOUT"
part B pins: 6 VBAT (power), 10 VSS (power), 11 VDD (power), 19 VDD (power), 20 VSSA (power), 21 VREF+ (power), 22 VDDA (power), 27 VSS (power), 28 VDD (power), 50 VDD (power), 74 VSS (power), 75 VDD (power), 99 VSS (power), 100 VDD (power)

## Test Point GND
designator TP*  (no BOM)
Test Point Ground
pins: 1

## Test Point SIG
designator TP*  (no BOM)
Test Point Signal
pins: 1

## Test Point VCC
designator TP*  (no BOM)
Test Point Power
pins: 1

## U.FL
designator J?
U.FL RF connector; Manufacturer: *; Manufacturer Part Number: *; Supplier 1: *; Supplier Part Number 1: *
pins: 1 OSC1, GND, GND

## XBee / XBee PRO
designator U?
Manufacturer: *; Manufacturer Part Number: *; Supplier 1: *; Supplier Part Number 1: *
footprint XBee PRO for headers (XBee PRO Module with standoff height for headers use)
pins: 1 VCC (power), 2 DOUT (out), 3 DIN (in), 4 DO8 (out), 5 ~{RESET} (in), 6 PWM0/RSSI (out), 7 PWM1 (out), 8 (Reserved), 9 ~{DTR}/SLEEP_RQ/DI8 (in), 10 GND (power), 11 AD4/DIO4 (io), 12 ~{CTS}/DIO7 (io), 13 ON/~{SLEEP} (out), 14 VREF (in), 15 ASSOC/AD5/DIO5 (io), 16 ~{RTS}/AD6/DIO6 (io), 17 AD3/DIO3 (io), 18 AD2/DIO2 (io), 19 AD1/DIO1 (io), 20 AD0/DIO0 (io)

## XTAL
designator Y?
Crystal Oscillator; Manufacturer: *; Manufacturer Part Number: *; Supplier 1: *; Supplier Part Number 1: *
footprint R38 (Crystal, Thru-Hole; 2 Leads; Body 3.1 x 8.2 mm (Dia.xH))
simulation model XTAL (Spice Subcircuit)
pins: 1 OSC1, 2 OSC2

## XTAL_1
designator Y?
Crystal Oscillator with ground points; Manufacturer: *; Manufacturer Part Number: *; Supplier 1: *; Supplier Part Number 1: *
footprint R38 (Crystal, Thru-Hole; 2 Leads; Body 3.1 x 8.2 mm (Dia.xH))
simulation model XTAL (Spice Subcircuit)
pins: 1 OSC1, 2 OSC2, 3 GND, 4 GND

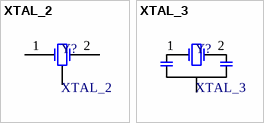
[diagram p2: symbols XTAL_2 to XTAL_3]

## XTAL_2
designator Y?
Crystal Oscillator with ground points version 2; Manufacturer: *; Manufacturer Part Number: *; Supplier 1: *; Supplier Part Number 1: *
footprint R38 (Crystal, Thru-Hole; 2 Leads; Body 3.1 x 8.2 mm (Dia.xH))
simulation model XTAL (Spice Subcircuit)
pins: 1 OSC1, 2 OSC2, GND, GND

## XTAL_3
designator Y?
Resonator with built in capacitors; Manufacturer: *; Manufacturer Part Number: *; Supplier 1: *; Supplier Part Number 1: *
footprint R38 (Crystal, Thru-Hole; 2 Leads; Body 3.1 x 8.2 mm (Dia.xH))
simulation model XTAL (Spice Subcircuit)
pins: 1 OSC1, 2 OSC2, 3 GND